# EAGLE library part IS25LP032D-JNLE (library alvie)
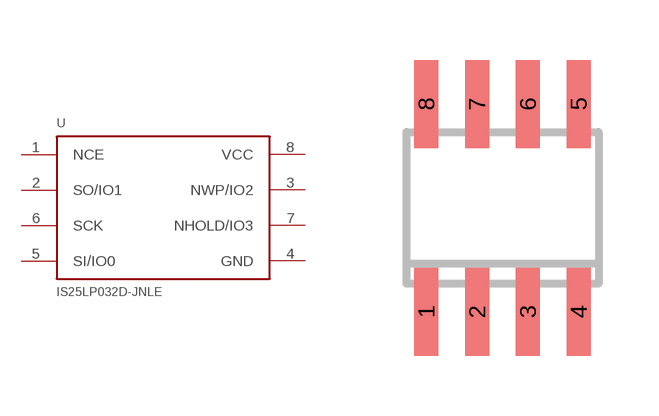
[diagram p27: symbol with the pads of SOIC8; footprint SOIC8]

Designator prefix -

## IS25LP032D-JNLE  [SOIC8]
1  NCE  in
2  SO/IO1
3  NWP/IO2
4  GND  pwr
5  SI/IO0
6  SCK  in
7  NHOLD/IO3
8  VCC  pwr

## Footprint SOIC8 (pad centres in mm)
smd 0.6 x 2.2: 1 -1.905,-2.6; 2 -0.635,-2.6; 3 0.635,-2.6; 4 1.905,-2.6; 5 1.905,2.6; 6 0.635,2.6; 7 -0.635,2.6; 8 -1.905,2.6